# EAGLE library part V__VFD_A3 (library ++Bedrahtet)
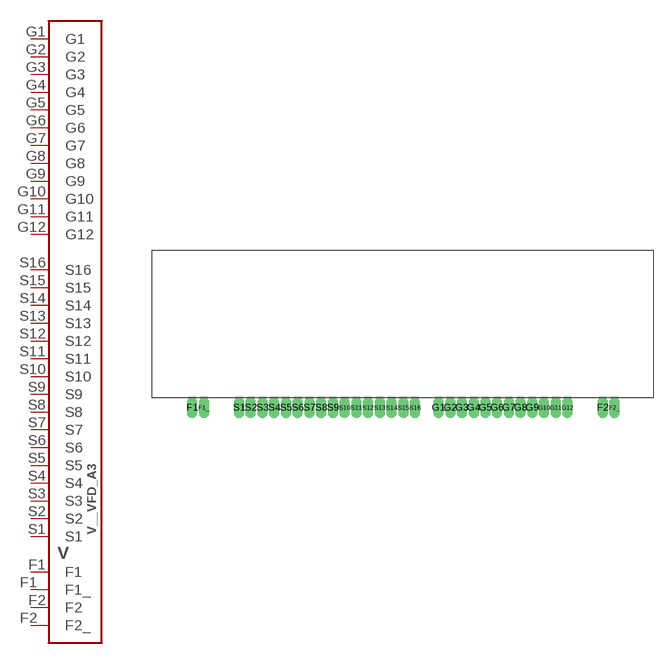
[diagram p65: symbol with the pads of VFD_A3; footprint VFD_A3]

Designator prefix V

## V__VFD_A3  [VFD_A3]
F1  F1
F1_  F1_
F2  F2
F2_  F2_
G1  G1
G2  G2
G3  G3
G4  G4
G5  G5
G6  G6
G7  G7
G8  G8
G9  G9
G10  G10
G11  G11
G12  G12
S1  S1
S2  S2
S3  S3
S4  S4
S5  S5
S6  S6
S7  S7
S8  S8
S9  S9
S10  S10
S11  S11
S12  S12
S13  S13
S14  S14
S15  S15
S16  S16

## Footprint VFD_A3 (pad centres in mm)
drill 0.9 pad 1.778 long: F1 0,0; F1_ 2,0; F2 70,0; F2_ 72,0; G1 42,0; G2 44,0; G3 46,0; G4 48,0; G5 50,0; G6 52,0; G7 54,0; G8 56,0; G9 58,0; G10 60,0; G11 62,0; G12 64,0; S1 8,0; S2 10,0; S3 12,0; S4 14,0; S5 16,0; S6 18,0; S7 20,0; S8 22,0; S9 24,0; S10 26,0; S11 28,0; S12 30,0; S13 32,0; S14 34,0; S15 36,0; S16 38,0